# EAGLE library part DIFFERENTIAL_TRANSCEIVER (library parts_servo)
Differntial transceiver, RS-485 etc.
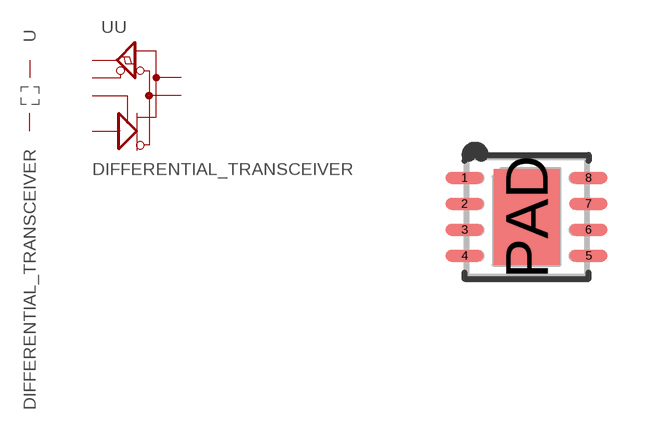
[diagram p3: symbol with the pads of DFN-8(3X3)+EP; footprint DFN-8(3X3)+EP]

Designator prefix U; gates U=DIFFERENTIAL_TRANSCEIVER PWR=VDD+GND-0.4IN

## DIFFERENTIAL_TRANSCEIVER-DFN-8(3X3)+EP  [DFN-8(3X3)+EP]
1  U:R  out
2  U:!RE!  in
3  U:DE  in
4  U:D  in
5  PWR:GND  pwr
6  U:A
7  U:B
8  PWR:VDD  pwr
PAD  PWR:GND  pwr

## Footprint DFN-8(3X3)+EP (pad centres in mm)
DFN-8 3x3mm, 0.5mm pitch + pad Other names: TI: DRB (S-PVSON-8)
smd 0.95 x 0.3: 1 -1.55,0.975; 2 -1.55,0.325; 3 -1.55,-0.325; 4 -1.55,-0.975; 5 1.55,-0.975; 6 1.55,-0.325; 7 1.55,0.325; 8 1.55,0.975
smd 1.65 x 2.4: PAD 0,0